# EAGLE library part OLIMEX_IC_RTL8201CP (library A10-A20-OLINUXINO-MICRO-4GB_Rev_D)
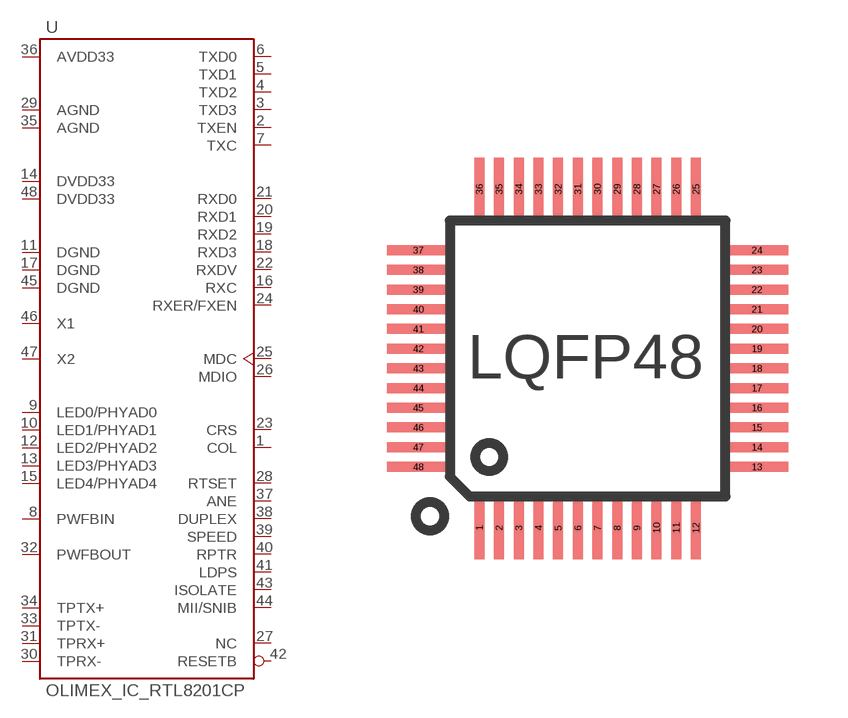
[diagram p15: symbol with the pads of OLIMEX_IC_LQFP48; footprint OLIMEX_IC_LQFP48]

Designator prefix U

## OLIMEX_IC_RTL8201CP  [OLIMEX_IC_LQFP48]
1  COL
2  TXEN  in
3  TXD3  in
4  TXD2  in
5  TXD1  in
6  TXD0  in
7  TXC  out
8  PWFBIN  in
9  LED0/PHYAD0
10  LED1/PHYAD1
11  DGND  pwr
12  LED2/PHYAD2
13  LED3/PHYAD3
14  DVDD33  pwr
15  LED4/PHYAD4
16  RXC
17  DGND  pwr
18  RXD3  out
19  RXD2  out
20  RXD1  out
21  RXD0  out
22  RXDV  out
23  CRS
24  RXER/FXEN
25  MDC  in
26  MDIO
27  NC  nc
28  RTSET  in
29  AGND  pwr
30  TPRX-  in
31  TPRX+  in
32  PWFBOUT  out
33  TPTX-  out
34  TPTX+  out
35  AGND  pwr
36  AVDD33  pwr
37  ANE
38  DUPLEX
39  SPEED
40  RPTR  in
41  LDPS  in
42  RESETB  in
43  ISOLATE  in
44  MII/SNIB
45  DGND  pwr
46  X1  in
47  X2  out
48  DVDD33  pwr

## Footprint OLIMEX_IC_LQFP48 (pad centres in mm)
LQFP48 - 48 pin Low-profile Quad Flat Package This package is designed by Penko according to STM32F103xx.pdf Pitch:0,50mm; Pad Width:0,254mm; Pad Length:1,60mm; Pads Distance(inner edge to inner edge):7,00mm; Pads Distance(out edge to out edge):9,00mm; Dimensions:7,00x7,00x1,60mm;
smd 0.254 x 1.6: 1 -2.75,-4.3; 2 -2.25,-4.3; 3 -1.75,-4.3; 4 -1.25,-4.3; 5 -0.75,-4.3; 6 -0.25,-4.3; 7 0.25,-4.3; 8 0.75,-4.3; 9 1.25,-4.3; 10 1.75,-4.3; 11 2.25,-4.3; 12 2.75,-4.3; 25 2.75,4.3; 26 2.25,4.3; 27 1.75,4.3; 28 1.25,4.3; 29 0.75,4.3; 30 0.25,4.3; 31 -0.25,4.3; 32 -0.75,4.3; 33 -1.25,4.3; 34 -1.75,4.3; 35 -2.25,4.3; 36 -2.75,4.3
smd 1.6 x 0.254: 13 4.3,-2.75; 14 4.3,-2.25; 15 4.3,-1.75; 16 4.3,-1.25; 17 4.3,-0.75; 18 4.3,-0.25; 19 4.3,0.25; 20 4.3,0.75; 21 4.3,1.25; 22 4.3,1.75; 23 4.3,2.25; 24 4.3,2.75; 37 -4.3,2.75; 38 -4.3,2.25; 39 -4.3,1.75; 40 -4.3,1.25; 41 -4.3,0.75; 42 -4.3,0.25; 43 -4.3,-0.25; 44 -4.3,-0.75; 45 -4.3,-1.25; 46 -4.3,-1.75; 47 -4.3,-2.25; 48 -4.3,-2.75